# EAGLE library part S8B-XH-A (library jst-xh)
Wire-to-Board 2.5mm pitch side mount connector Source: http://www.jst-mfg.com/product/pdf/jpn/XH.pdf http://www.jst-mfg.com/product/detail.php?series=277
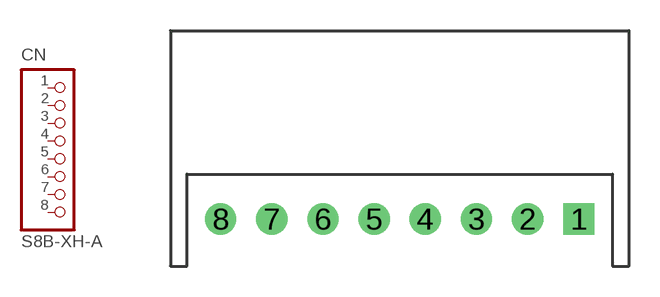
[diagram p14: symbol with the pads of S8B-XH-A; footprint S8B-XH-A]

Designator prefix CN

## S8B-XH-A  [S8B-XH-A]
1  1  pas
2  2  pas
3  3  pas
4  4  pas
5  5  pas
6  6  pas
7  7  pas
8  GND  pas

## Footprint S8B-XH-A (pad centres in mm)
drill 1.016 square: 1 8.75,0
drill 1.016: 2 6.25,0; 3 3.75,0; 4 1.25,0; 5 -1.25,0; 6 -3.75,0; 7 -6.25,0; 8 -8.75,0